# EAGLE library part 811-S1-006-30-017101 (library CONNECTORs)
6 Position Spring Piston Connector Surface Mount 7.5mm height
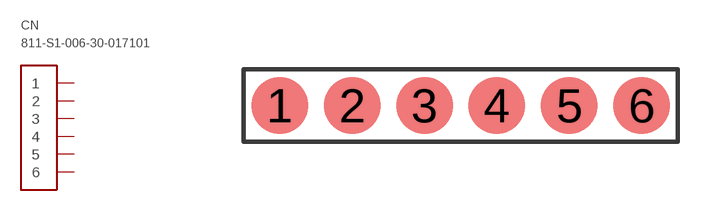
[diagram p53: symbol with the pads of 811-S1-NNN-30-XXX101; footprint 811-S1-NNN-30-XXX101]

Designator prefix CN

## 811-S1-006-30-017101 (DIGIKEY: 1212-1535-ND; HEIGHT: 5; PRICE_PER: 2.28; VALUE: 6 PIN SM POGO)  [811-S1-NNN-30-XXX101]
1  1
2  2
3  3
4  4
5  5
6  6

## Footprint 811-S1-NNN-30-XXX101 (pad centres in mm)
smd 2 x 2: 1 -6.35,0; 2 -3.81,0; 3 -1.27,0; 4 1.27,0; 5 3.81,0; 6 6.35,0